# Altium integrated library ON Semi Signal Management CMOS Image Sensors.IntLib: 21 symbols (part 1 of 3)
Pins are listed as number, name and electrical type; pins without a type are passive.

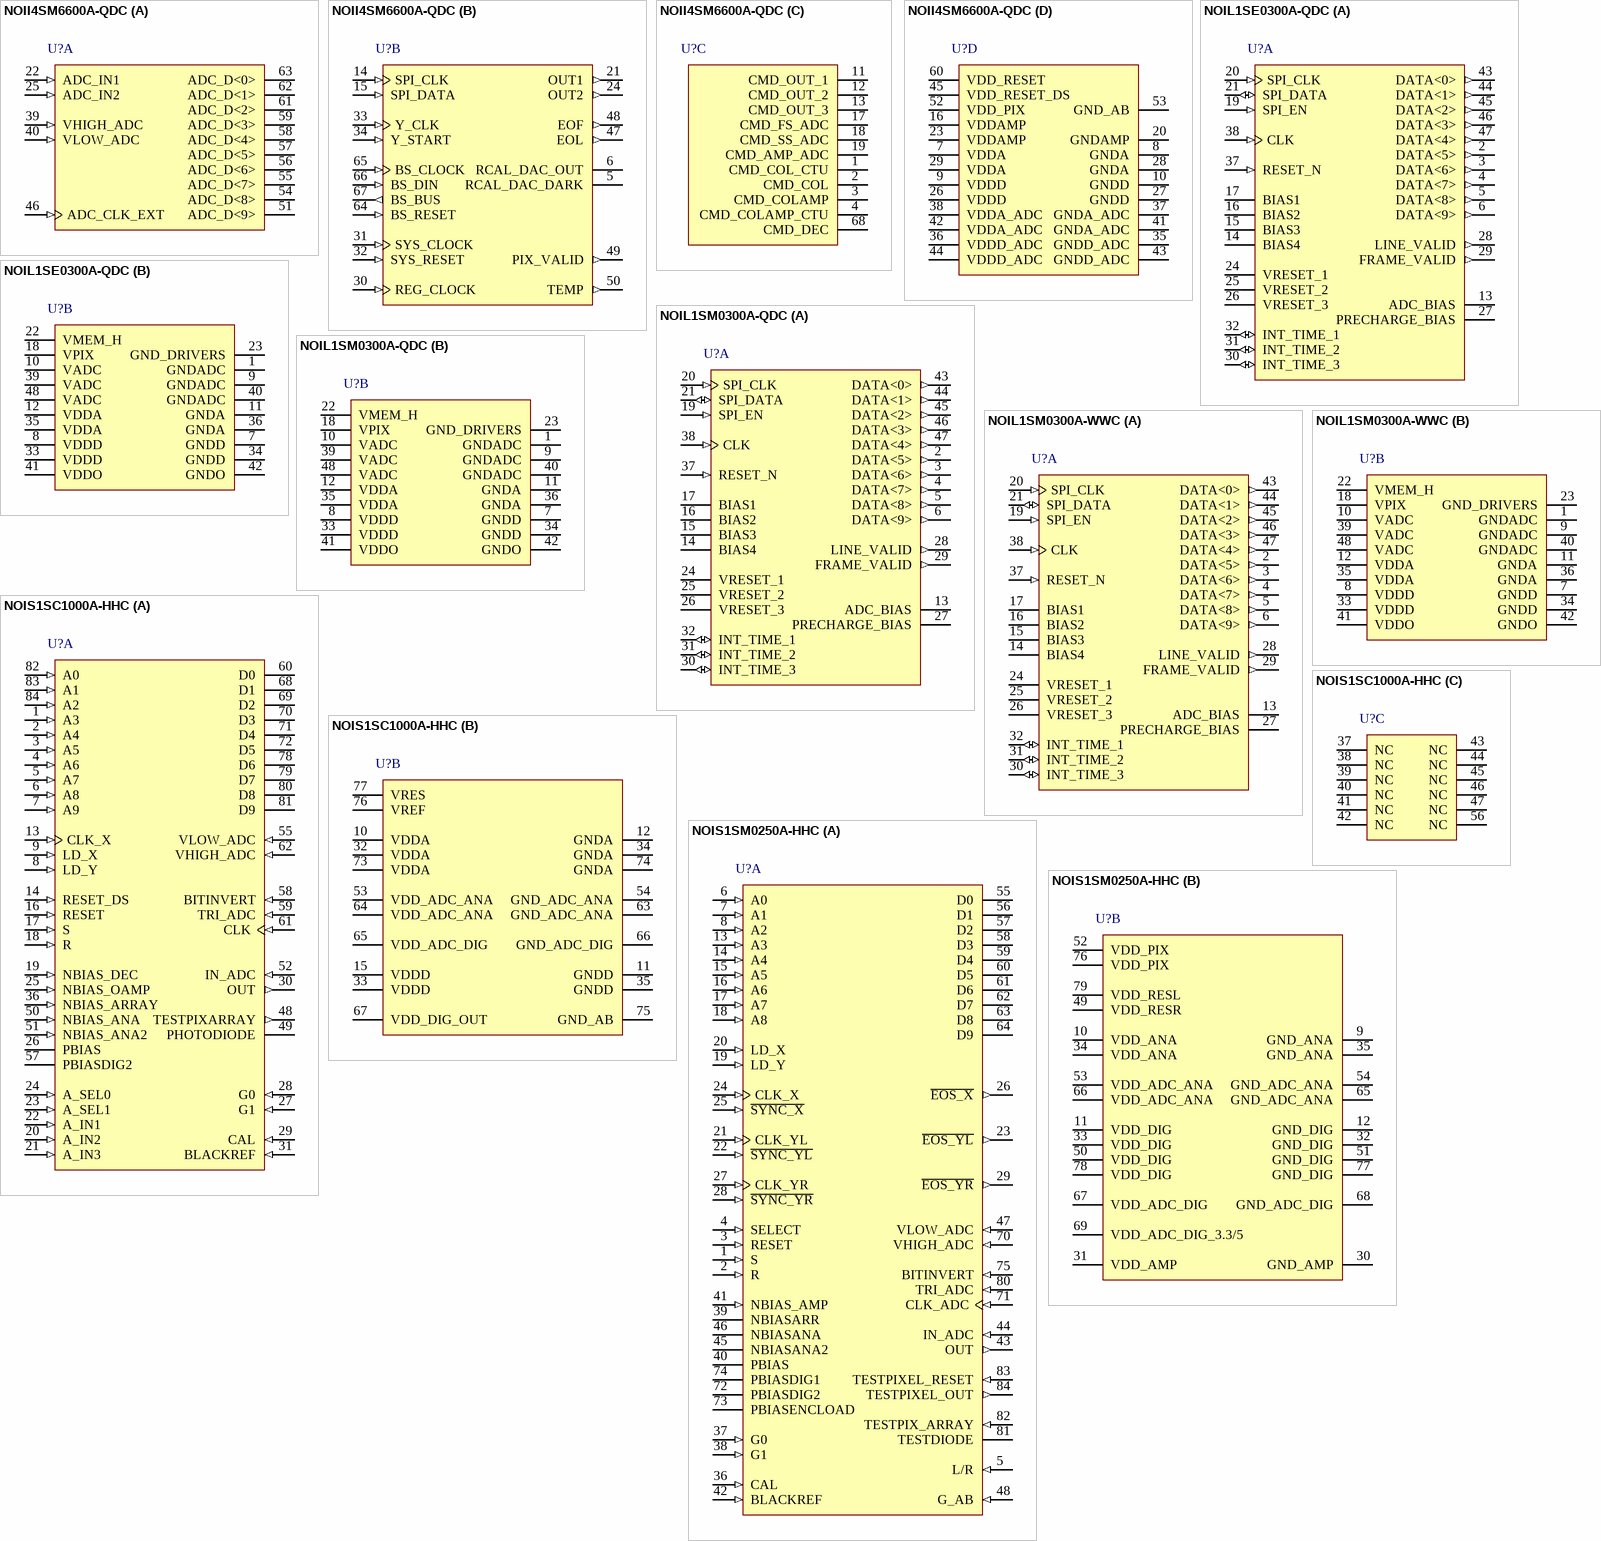
[diagram p0: symbols NOII4SM6600A-QDC to NOIS1SM0250A-HHC]

## NOII4SM6600A-QDC
designator U?
6.6 Megapixel CMOS Image Sensor, -30 to 65 degC, 68-Pin LCC, Pb-Free, Tray; Manufacturer: On Semiconductor; PartNumber: NOII4SM6600A-QDC; Megapixels: 6.6; Optical Format: 1 inch; Shutter Type: Rolling; DatasheetVersion: Rev. 14; PackageVersion: Rev. A, 12/2011; PackageReference: LCC-68-115AQ; PackageDescription: 68-Pin Leadless Chip Carrier, Body 24.195 x 24.195 mm, Pitch 1.27 mm; Supplier 1: Digi-Key; Supplier Part Number 1: NOII4SM6600A-QDC-ND; Supplier 2: Newark; Supplier Part Number 2: 65T1477; Supplier 3: Mouser; Supplier Part Number 3: 863-NOII4SM6600AQDC; Packing: Tray; RoHS: TRUE; Mounting Technology: Surface Mount; ComponentLink1Description: Manufacturer URL; ComponentLink1URL: http://www.onsemi.com/; ComponentLink2Description: Datasheet; ComponentLink2URL: http://www.onsemi.com/pub_link/Collateral/NOII4SM6600A-D.PDF; ComponentLink3Description: Package Specification; ComponentLink3URL: http://www.onsemi.com/pub_link/Collateral/115AQ.PDF
footprint ONSC-LCC-68-115AQ_V (LCC, 68-Leads, Body 24.195x24.195mm, Pitch 1.27mm)
part A pins: 22 ADC_IN1 (in) "Analog input ADC 1", 25 ADC_IN2 (in) "Analog input ADC 2", 39 VHIGH_ADC (in) "ADC high reference voltage (for example, connect to VDDA_ADC with R = 560 Ohm and decouple to GNDA_ADC with C = 100 nF)", 40 VLOW_ADC (in) "ADC low reference voltage (for example, connect to GNDA_ADC with R = 220 Ohm and decouple to GNDA_ADC with C = 100 nF)", 46 ADC_CLK_EXT (in) "External ADC clock", 51 ADC_D<9> (hiz) "ADC data output (MSB)", 54 ADC_D<8> (hiz) "ADC data output", 55 ADC_D<7> (hiz) "ADC data output", 56 ADC_D<6> (hiz) "ADC data output", 57 ADC_D<5> (hiz) "ADC data output", 58 ADC_D<4> (hiz) "ADC data output", 59 ADC_D<3> (hiz) "ADC data output", 61 ADC_D<2> (hiz) "ADC data output", 62 ADC_D<1> (hiz) "ADC data output", 63 ADC_D<0> (hiz) "ADC data output (LSB)"
part B pins: 5 RCAL_DAC_DARK "Biasing of DAC for dark reference. Can be used to set output range of DAC. Default: Decouple to GNDA with C = 100 nF", 6 RCAL_DAC_OUT "Biasing of DAC for output dark level. Can be used to set output range of DAC. Default: Connect to GNDA", 14 SPI_CLK (in) "Clock of digital parameter upload. Shifts on rising edge.", 15 SPI_DATA (in) "Serial address and data input. 16-bit word. Address first. MSB first.", 21 OUT1 (out) "Analog output 1", 24 OUT2 (out) "Analog output 2", 30 REG_CLOCK (in) "Register clock. Data on internal bus is copied to corresponding registers on rising edge.", 31 SYS_CLOCK (in) "System clock defining the pixel rate (nominal 40 MHz, 50% +/- 5% duty cycle)", 32 SYS_RESET (in) "Global system reset (active high)", 33 Y_CLK (in) "Line clock", 34 Y_START (in) "Start frame readout", 47 EOL (out) "Diagnostic end of line signal (produced by sequencer), can be used as Y_CLK", 48 EOF (out) "Diagnostic end of frame signal (produced by sequencer), can be used as Y_START", 49 PIX_VALID (out) "Diagnostic signal. High during pixel readout", 50 TEMP (out) "Temperature measurement. Output voltage varies linearly with temperature.", 64 BS_RESET (in) "Boundary scan (allows debugging of internal nodes): Reset. Tie to GND if not used.", 65 BS_CLOCK (in) "Boundary scan (allows debugging of internal nodes): Clock. Tie to GND if not used.", 66 BS_DIN (in) "Boundary scan (allows debugging of internal nodes): In. Tie to GND if not used.", 67 BS_BUS (out) "Boundary scan (allows debugging of internal nodes): Bus. Leave floating if not used."
part C pins: 1 CMD_COL_CTU "Biasing of columns (ctu). Decouple with 100 nF to GNDA.", 2 CMD_COL "Biasing of columns. Connect to VDDA with R = 10 kOhm and decouple to GNDA with C = 100 nF.", 3 CMD_COLAMP "Biasing of column amplifiers. Connect to VDDA with R = 100 kOhm and decouple to GNDA with C = 100 nF.", 4 CMD_COLAMP_CTU "Biasing of column amplifiers. Connect to VDDA with R = 10 MOhm and decouple to GNDA with C = 100 nF.", 11 CMD_OUT_1 "Biasing of first stage output amplifiers. Connect to VDDAMP with R = 50 kOhm and decouple to GNDAMP with C = 100 nF.", 12 CMD_OUT_2 "Biasing of second stage output amplifiers. Connect to VDDAMP with R = 25 kOhm and decouple to GNDAMP with C = 100 nF.", 13 CMD_OUT_3 "Biasing of third stage output amplifiers. Connect to VDDAMP with R = 100 kOhm and decouple to GNDAMP with C = 100 nF.", 17 CMD_FS_ADC "Biasing of first stage ADC. Connect to VDDA_ADC with R = 50 kOhm and decouple to GNDA_ADC with C = 100 nF.", 18 CMD_SS_ADC "Biasing of second stage ADC. Connect to VDDA_ADC with R = 50 kOhm and decouple to GNDA_ADC.", 19 CMD_AMP_ADC "Biasing of input stage ADC. Connect to VDDA_ADC with R = 180 kOhm and decouple to GNDA_ADC with C = 100 nF.", 68 CMD_DEC "Biasing of X and Y decoder. Connect to VDDD with R = 50 kOhm and decouple to GNDD with C = 100 nF."
part D pins: 7 VDDA (power) "VDD of analog part [2.5 V]", 8 GNDA (power) "GND (&substrate) of analog part", 9 VDDD (power) "VDD of digital part [2.5 V]", 10 GNDD (power) "GND (&substrate) of digital part", 16 VDDAMP (power) "VDD of analog output [2.5 V] (Can be connected to VDDA)", 20 GNDAMP (power) "GND (&substrate) of analog output", 23 VDDAMP (power) "VDD of analog output [2.5 V] (Can be connected to VDDA)", 26 VDDD (power) "VDD of digital part [2.5 V]", 27 GNDD (power) "GND (&substrate) of digital part", 28 GNDA (power) "GND (&substrate) of analog part", 29 VDDA (power) "VDD of analog part [2.5 V]", 35 GNDD_ADC (power) "GND (&substrate) of digital part ADC", 36 VDDD_ADC (power) "VDD of digital part [2.5 V] ADC", 37 GNDA_ADC (power) "GND (&substrate) of analog part", 38 VDDA_ADC (power) "VDD of analog part [2.5 V]", 41 GNDA_ADC (power) "GND (&substrate) of analog part", 42 VDDA_ADC (power) "VDD of analog part [2.5 V]", 43 GNDD_ADC (power) "GND (&substrate) of digital part ADC", 44 VDDD_ADC (power) "VDD of digital part [2.5 V] ADC", 45 VDD_RESET_DS (power) "Variable reset voltage (dual slope)", 52 VDD_PIX (power) "VDD of pixel core [2.5 V]", 53 GND_AB (power) "Anti-blooming ground. Set to 1 V for improved anti-blooming behavior", 60 VDD_RESET (power) "Reset voltage [2.5 V]. Highest voltage to the chip. 3.3 V for extended dynamic range or ‘hard reset’."

## NOIL1SE0300A-QDC
designator U?
CMOS Image Sensor, -40 to 70 degC, 48-Pin LCC, Pb-Free, Tray; Manufacturer: On Semiconductor; PartNumber: NOIL1SE0300A-QDC; Frame Rate (fps): 250; Megapixels: 0.3; Optical Format: 1/2 inch; Shutter Type: Pipelined and Triggered Global; DatasheetVersion: Rev. 10; PackageReference: LCC-48-45394; PackageDescription: 48-Pin Leadless Chip Carrier, Body 14.305 x 14.305 mm, Pitch 1.016 mm; Supplier 1: Digi-Key; Supplier Part Number 1: NOIL1SE0300A-QDC-ND; Supplier 2: Newark; Supplier Part Number 2: 65T1479; Supplier 3: Mouser; Supplier Part Number 3: N/A; Packing: Tray; RoHS: TRUE; Mounting Technology: Surface Mount; ComponentLink1Description: Manufacturer URL; ComponentLink1URL: http://www.onsemi.com/; ComponentLink2Description: Datasheet; ComponentLink2URL: http://www.onsemi.com/pub_link/Collateral/NOIL1SM0300A-D.PDF; ComponentLink3Description: Package Specification; ComponentLink3URL: http://www.onsemi.com/pub_link/Collateral/NOIL1SM0300A-D.PDF
footprint ONSC-LCC-48-45394_N (LCC, 48-Leads, Body 14.31x14.31mm, Pitch 1.016mm, IPC Medium Density)
footprint ONSC-LCC-48-45394_L (LCC, 48-Leads, Body 14.31x14.31mm, Pitch 1.016mm, IPC High Density)
footprint ONSC-LCC-48-45394_M (LCC, 48-Leads, Body 14.31x14.31mm, Pitch 1.016mm, IPC Low Density)
part A pins: 2 DATA<5> (out) "Databit<5>", 3 DATA<6> (out) "Databit<6>", 4 DATA<7> (out) "Databit<7>", 5 DATA<8> (out) "Databit<8>", 6 DATA<9> (out) "Databit<9> (MSB)", 13 ADC_BIAS "Biasing of ADCs. Connect with 10 kohm to VADC and decouple with 100n to GND_ADC", 14 BIAS4 "Biasing of amplifier stage. Connect with 110 kohm to VDDA and decouple with 100nF to GNDA", 15 BIAS3 "Biasing of columns. Connect with 42 kohm to VDDA and decouple with 100nF to GNDA", 16 BIAS2 "Biasing of columns. Connect with 1.5 Mohm to VDDA and decouple with 100nF to GNDA", 17 BIAS1 "Biasing of imager core. Connect with 500 kohm to VDDA and decouple with 100nF to GNDA", 19 SPI_EN (in) "Enable of the SPI", 20 SPI_CLK (in) "Clock of the SPI. (Max. 20MHz)", 21 SPI_DATA (io) "Data line of the SPI. Bidirectional pin", 24 VRESET_1 (power) "Reset supply voltage (typical 3.3V)", 25 VRESET_2 (power) "Dual slope reset supply voltage. Connect to other supply or ground when dual slope reset is not used", 26 VRESET_3 (power) "Triple slope reset supply voltage. Connect to other supply or ground when triple slope reset is not used", 27 PRECHARGE_BIAS "Connect with 68 kohm to VPIX and decouple with 100 nF to GND_DRIVERS", 28 LINE_VALID (out) "Indicates when valid data is at the outputs. Active high", 29 FRAME_VALID (out) "Indicates when valid frame is readout", 30 INT_TIME_3 (io) "In master mode: Output to indicate the triple slope integration time. In slave mode: Input to control the triple slope integration time", 31 INT_TIME_2 (io) "In master mode: Output to indicate the dual slope integration time. In slave mode: Input to control the dual slope integration time", 32 INT_TIME_1 (io) "In master mode: Output to indicate the integration time. In slave mode: Input to control integration time", 37 RESET_N (in) "Sequencer reset, active low", 38 CLK (in) "Readout clock (80 MHz), sine or square clock", 43 DATA<0> (out) "Databit<0> (MSB)", 44 DATA<1> (out) "Databit<1>", 45 DATA<2> (out) "Databit<2>", 46 DATA<3> (out) "Databit<3>", 47 DATA<4> (out) "Databit<4>"
part B pins: 1 GNDADC (power) "Ground supply of the ADCs", 7 GNDD (power) "Digital ground supply", 8 VDDD (power) "Digital power supply (2.5V)", 9 GNDADC (power) "Ground supply of the ADCs", 10 VADC (power) "Power supply of the ADCs (2.5V)", 11 GNDA (power) "Ground supply of analog readout circuitry", 12 VDDA (power) "Power supply of analog readout circuitry (2.5V)", 18 VPIX (power) "Power supply of pixel array (2.5V)", 22 VMEM_H (power) "Supply of vmem_high of pixelarray (3.3V)", 23 GND_DRIVERS (power) "Ground of pixel array drivers", 33 VDDD (power) "Digital power supply (2.5V)", 34 GNDD (power) "Digital ground supply", 35 VDDA (power) "Power supply of analog readout circuitry (2.5V)", 36 GNDA (power) "Ground supply of analog readout circuitry", 39 VADC (power) "Power supply of the ADCs (2.5V)", 40 GNDADC (power) "Ground supply of the ADCs", 41 VDDO (power) "Power supply of the output drivers (2.5V)", 42 GNDO (power) "Ground supply of the output drivers", 48 VADC (power) "Power supply of the ADCs (2.5V)"

## NOIL1SM0300A-QDC
designator U?
CMOS Image Sensor, -40 to 70 degC, 48-Pin LCC, Pb-Free, Tray; Manufacturer: On Semiconductor; PartNumber: NOIL1SM0300A-QDC; Frame Rate (fps): 250; Megapixels: 0.3; Optical Format: 1/2 inch; Shutter Type: Pipelined and Triggered Global; DatasheetVersion: Rev. 10; PackageReference: LCC-48-45394; PackageDescription: 48-Pin Leadless Chip Carrier, Body 14.305 x 14.305 mm, Pitch 1.016 mm; Supplier 1: Digi-Key; Supplier Part Number 1: NOIL1SM0300A-QDCOS-ND; Supplier 2: Newark; Supplier Part Number 2: 65T1481; Supplier 3: Mouser; Supplier Part Number 3: 863-NOIL1SM0300AQDC; Packing: Tray; RoHS: TRUE; Mounting Technology: Surface Mount; ComponentLink1Description: Manufacturer URL; ComponentLink1URL: http://www.onsemi.com/; ComponentLink2Description: Datasheet; ComponentLink2URL: http://www.onsemi.com/pub_link/Collateral/NOIL1SM0300A-D.PDF; ComponentLink3Description: Package Specification; ComponentLink3URL: http://www.onsemi.com/pub_link/Collateral/NOIL1SM0300A-D.PDF
footprint ONSC-LCC-48-45394_N (LCC, 48-Leads, Body 14.31x14.31mm, Pitch 1.016mm, IPC Medium Density)
footprint ONSC-LCC-48-45394_L (LCC, 48-Leads, Body 14.31x14.31mm, Pitch 1.016mm, IPC High Density)
footprint ONSC-LCC-48-45394_M (LCC, 48-Leads, Body 14.31x14.31mm, Pitch 1.016mm, IPC Low Density)
part A pins: 2 DATA<5> (out) "Databit<5>", 3 DATA<6> (out) "Databit<6>", 4 DATA<7> (out) "Databit<7>", 5 DATA<8> (out) "Databit<8>", 6 DATA<9> (out) "Databit<9> (MSB)", 13 ADC_BIAS "Biasing of ADCs. Connect with 10 kohm to VADC and decouple with 100n to GND_ADC", 14 BIAS4 "Biasing of amplifier stage. Connect with 110 kohm to VDDA and decouple with 100nF to GNDA", 15 BIAS3 "Biasing of columns. Connect with 42 kohm to VDDA and decouple with 100nF to GNDA", 16 BIAS2 "Biasing of columns. Connect with 1.5 Mohm to VDDA and decouple with 100nF to GNDA", 17 BIAS1 "Biasing of imager core. Connect with 500 kohm to VDDA and decouple with 100nF to GNDA", 19 SPI_EN (in) "Enable of the SPI", 20 SPI_CLK (in) "Clock of the SPI. (Max. 20MHz)", 21 SPI_DATA (io) "Data line of the SPI. Bidirectional pin", 24 VRESET_1 (power) "Reset supply voltage (typical 3.3V)", 25 VRESET_2 (power) "Dual slope reset supply voltage. Connect to other supply or ground when dual slope reset is not used", 26 VRESET_3 (power) "Triple slope reset supply voltage. Connect to other supply or ground when triple slope reset is not used", 27 PRECHARGE_BIAS "Connect with 68 kohm to VPIX and decouple with 100 nF to GND_DRIVERS", 28 LINE_VALID (out) "Indicates when valid data is at the outputs. Active high", 29 FRAME_VALID (out) "Indicates when valid frame is readout", 30 INT_TIME_3 (io) "In master mode: Output to indicate the triple slope integration time. In slave mode: Input to control the triple slope integration time", 31 INT_TIME_2 (io) "In master mode: Output to indicate the dual slope integration time. In slave mode: Input to control the dual slope integration time", 32 INT_TIME_1 (io) "In master mode: Output to indicate the integration time. In slave mode: Input to control integration time", 37 RESET_N (in) "Sequencer reset, active low", 38 CLK (in) "Readout clock (80 MHz), sine or square clock", 43 DATA<0> (out) "Databit<0> (MSB)", 44 DATA<1> (out) "Databit<1>", 45 DATA<2> (out) "Databit<2>", 46 DATA<3> (out) "Databit<3>", 47 DATA<4> (out) "Databit<4>"
part B pins: 1 GNDADC (power) "Ground supply of the ADCs", 7 GNDD (power) "Digital ground supply", 8 VDDD (power) "Digital power supply (2.5V)", 9 GNDADC (power) "Ground supply of the ADCs", 10 VADC (power) "Power supply of the ADCs (2.5V)", 11 GNDA (power) "Ground supply of analog readout circuitry", 12 VDDA (power) "Power supply of analog readout circuitry (2.5V)", 18 VPIX (power) "Power supply of pixel array (2.5V)", 22 VMEM_H (power) "Supply of vmem_high of pixelarray (3.3V)", 23 GND_DRIVERS (power) "Ground of pixel array drivers", 33 VDDD (power) "Digital power supply (2.5V)", 34 GNDD (power) "Digital ground supply", 35 VDDA (power) "Power supply of analog readout circuitry (2.5V)", 36 GNDA (power) "Ground supply of analog readout circuitry", 39 VADC (power) "Power supply of the ADCs (2.5V)", 40 GNDADC (power) "Ground supply of the ADCs", 41 VDDO (power) "Power supply of the output drivers (2.5V)", 42 GNDO (power) "Ground supply of the output drivers", 48 VADC (power) "Power supply of the ADCs (2.5V)"

## NOIL1SM0300A-WWC
designator U?
CMOS Image Sensor, -40 to 70 degC, 48-Pin LCC, Pb-Free; Manufacturer: On Semiconductor; PartNumber: NOIL1SM0300A-WWC; Frame Rate (fps): 250; Megapixels: 0.3; Optical Format: 1/2 inch; Shutter Type: Pipelined and Triggered Global; DatasheetVersion: Rev. 10; PackageReference: LCC-48-45394; PackageDescription: 48-Pin Leadless Chip Carrier, Body 14.305 x 14.305 mm, Pitch 1.016 mm; Supplier 1: Digi-Key; Supplier Part Number 1: NOIL1SM0300A-WWC-ND; Supplier 2: Newark; Supplier Part Number 2: 65T1482; Supplier 3: Mouser; Supplier Part Number 3: N/A; RoHS: TRUE; Mounting Technology: Surface Mount; ComponentLink1Description: Manufacturer URL; ComponentLink1URL: http://www.onsemi.com/; ComponentLink2Description: Datasheet; ComponentLink2URL: http://www.onsemi.com/pub_link/Collateral/NOIL1SM0300A-D.PDF; ComponentLink3Description: Package Specification; ComponentLink3URL: http://www.onsemi.com/pub_link/Collateral/NOIL1SM0300A-D.PDF
footprint ONSC-LCC-48-45394_N (LCC, 48-Leads, Body 14.31x14.31mm, Pitch 1.016mm, IPC Medium Density)
footprint ONSC-LCC-48-45394_L (LCC, 48-Leads, Body 14.31x14.31mm, Pitch 1.016mm, IPC High Density)
footprint ONSC-LCC-48-45394_M (LCC, 48-Leads, Body 14.31x14.31mm, Pitch 1.016mm, IPC Low Density)
part A pins: 2 DATA<5> (out) "Databit<5>", 3 DATA<6> (out) "Databit<6>", 4 DATA<7> (out) "Databit<7>", 5 DATA<8> (out) "Databit<8>", 6 DATA<9> (out) "Databit<9> (MSB)", 13 ADC_BIAS "Biasing of ADCs. Connect with 10 kohm to VADC and decouple with 100n to GND_ADC", 14 BIAS4 "Biasing of amplifier stage. Connect with 110 kohm to VDDA and decouple with 100nF to GNDA", 15 BIAS3 "Biasing of columns. Connect with 42 kohm to VDDA and decouple with 100nF to GNDA", 16 BIAS2 "Biasing of columns. Connect with 1.5 Mohm to VDDA and decouple with 100nF to GNDA", 17 BIAS1 "Biasing of imager core. Connect with 500 kohm to VDDA and decouple with 100nF to GNDA", 19 SPI_EN (in) "Enable of the SPI", 20 SPI_CLK (in) "Clock of the SPI. (Max. 20MHz)", 21 SPI_DATA (io) "Data line of the SPI. Bidirectional pin", 24 VRESET_1 (power) "Reset supply voltage (typical 3.3V)", 25 VRESET_2 (power) "Dual slope reset supply voltage. Connect to other supply or ground when dual slope reset is not used", 26 VRESET_3 (power) "Triple slope reset supply voltage. Connect to other supply or ground when triple slope reset is not used", 27 PRECHARGE_BIAS "Connect with 68 kohm to VPIX and decouple with 100 nF to GND_DRIVERS", 28 LINE_VALID (out) "Indicates when valid data is at the outputs. Active high", 29 FRAME_VALID (out) "Indicates when valid frame is readout", 30 INT_TIME_3 (io) "In master mode: Output to indicate the triple slope integration time. In slave mode: Input to control the triple slope integration time", 31 INT_TIME_2 (io) "In master mode: Output to indicate the dual slope integration time. In slave mode: Input to control the dual slope integration time", 32 INT_TIME_1 (io) "In master mode: Output to indicate the integration time. In slave mode: Input to control integration time", 37 RESET_N (in) "Sequencer reset, active low", 38 CLK (in) "Readout clock (80 MHz), sine or square clock", 43 DATA<0> (out) "Databit<0> (MSB)", 44 DATA<1> (out) "Databit<1>", 45 DATA<2> (out) "Databit<2>", 46 DATA<3> (out) "Databit<3>", 47 DATA<4> (out) "Databit<4>"
part B pins: 1 GNDADC (power) "Ground supply of the ADCs", 7 GNDD (power) "Digital ground supply", 8 VDDD (power) "Digital power supply (2.5V)", 9 GNDADC (power) "Ground supply of the ADCs", 10 VADC (power) "Power supply of the ADCs (2.5V)", 11 GNDA (power) "Ground supply of analog readout circuitry", 12 VDDA (power) "Power supply of analog readout circuitry (2.5V)", 18 VPIX (power) "Power supply of pixel array (2.5V)", 22 VMEM_H (power) "Supply of vmem_high of pixelarray (3.3V)", 23 GND_DRIVERS (power) "Ground of pixel array drivers", 33 VDDD (power) "Digital power supply (2.5V)", 34 GNDD (power) "Digital ground supply", 35 VDDA (power) "Power supply of analog readout circuitry (2.5V)", 36 GNDA (power) "Ground supply of analog readout circuitry", 39 VADC (power) "Power supply of the ADCs (2.5V)", 40 GNDADC (power) "Ground supply of the ADCs", 41 VDDO (power) "Power supply of the output drivers (2.5V)", 42 GNDO (power) "Ground supply of the output drivers", 48 VADC (power) "Power supply of the ADCs (2.5V)"

## NOIS1SC1000A-HHC
designator U?
1 Megapixel Radiation Hard CMOS Image Sensor, -40 to 85 degC, 84-Pin JLDCC, Pb-Free; Manufacturer: On Semiconductor; PartNumber: NOIS1SC1000A-HHC; Frame Rate (fps): 11; Megapixels: 1; Optical Format: 1 inch; Shutter Type: Rolling; DatasheetVersion: Rev. 13; PackageVersion: Rev. O, 07/2011; PackageReference: JLDCC-84-114AK-01; PackageDescription: 84-Pin J-Leaded Chip Carrier, Body 29.21 x 29.21 mm, Pitch 1.27 mm; Supplier 1: Digi-Key; Supplier Part Number 1: NOIS1SC1000A-HHC-ND; Supplier 2: Mouser; Supplier Part Number 2: N/A; RoHS: TRUE; Mounting Technology: Surface Mount; ComponentLink1Description: Manufacturer URL; ComponentLink1URL: http://www.onsemi.com/; ComponentLink2Description: Datasheet; ComponentLink2URL: http://www.onsemi.com/pub_link/Collateral/NOIS1SM1000A-D.PDF; ComponentLink3Description: Package Specification; ComponentLink3URL: http://www.onsemi.com/pub_link/Collateral/114AK.PDF
footprint ONSC-JLDCC-84-114AK-01_V (PLCC, 84-Leads, Body 29.21x29.21mm, Pitch 1.27mm)
part A pins: 1 A3 (in), 2 A4 (in), 3 A5 (in), 4 A6 (in), 5 A7 (in), 6 A8 (in), 7 A9 (in), 8 LD_Y (in) "Digital Input. Latch address (A0…A9) to Y-register (0 = track, 1 = hold).", 9 LD_X (in) "Digital input. Latch address (A0…A9) to X-register (0 = track, 1 = hold).", 13 CLK_X (in) "Digital input. Clock X-register (output valid & stable when CLK_X is high).", 14 RESET_DS (in) "Digital input (active high). Resets row indicated by Y-address (see sensor timing diagram). RESET_DS is used for dual-slope integration (see FAQ). GND is used for normal operation.", 16 RESET (in) "Digital input (active high). Resets row indicated by Y-address (see sensor timing diagram).", 17 S (in) "Digital input (active high). Control signal for column amplifier (see sensor timing diagram).", 18 R (in) "Digital input (active high). Control signal for column amplifier (see sensor timing diagram).", 19 NBIAS_DEC (in) "Analog input. Biasing of address decoder. Connect with 100 kohm to VDDA and decouple with 100 nF to GND.", 20 A_IN2 (in) "Additional analog inputs. For proper conversion with on-chip ADC, the input signal must lie within the output signal range of the image sensor (approxim-ately +2 V to +4 V).", 21 A_IN3 (in) "Additional analog inputs. For proper conversion with on-chip ADC, the input signal must lie within the output signal range of the image sensor (approxim-ately +2 V to +4 V).", 22 A_IN1 (in) "Additional analog inputs. For proper conversion with on-chip ADC, the input signal must lie within the output signal range of the image sensor (approxim-ately +2 V to +4 V).", 23 A_SEL1 (in) "Selection of analog channel: ?0?selects image sensor (?1?selects A_IN1, ?0?A_IN2, and ?1?A_IN3).", 24 A_SEL0 (in) "Selection of analog channel: ?0?selects image sensor (?1?selects A_IN1, ?0?A_IN2, and ?1?A_IN3).", 25 NBIAS_OAMP (in) "Analog input. Bias of output amplifier (speed/power control). Connect with 100 kohm to VDDA and decouple with 100 nF to GND for 12.5 MHz output rate (lower resistor values yield higher maximal pixel rates at the cost of (See Datasheet)", 26 PBIAS "Analog input. Biasing of the multiplexer circuitry. Connect with 20 kohm to GND and decouple with 100 nF to VDD.", 27 G1 (in) "Digital input. Select output amplifier gain value: G0 = LSB, G1 = MSB (?0?= unity gain, ?1?= x2, ?0?= x4, ?1?= x8).", 28 G0 (in) "Digital input. Select output amplifier gain value: G0 = LSB, G1 = MSB (?0?= unity gain, ?1?= x2, ?0?= x4, ?1?= x8).", 29 CAL (in) "Digital input (active high). Initialization of output amplifier. Output amplifier outputs BLACKREF in unity gain mode when CAL is high (1). Apply pulse pattern (see sensor timing diagram).", 30 OUT (out) "Analog Output Video Signal. Connected to the analog input of the internal (pin 52) 10-bit ADC or an external ADC.", 31 BLACKREF (in) "Analog input. Control voltage for output signal offset level. Buffered on-chip, the reference level can be generated by a 100 kohm resistive divider. Connect to 2 V DC for use with on-chip ADC.", 36 NBIAS_ARRAY (in) "Analog input. Biasing of the pixel array. Connect with 1Mohm to VDDA and decouple with 100 nF capacitor to GND.", 48 TESTPIXARRAY (out) "Analog output of an array of 20 x 35 test pixels where all photodiodes are connected in parallel. Is used for electro-optical evaluation.", 49 PHOTODIODE "Plain Photo Diode (without circuitry). Area of the photodiode = 20 x 35 pixels. Is used for electro-optical evaluation.", 50 NBIAS_ANA (in) "Analog input. Analog biasing of the ADC circuitry. Connect with 100 kohm to VDDA and decouple with 100 nF to GND.", 51 NBIAS_ANA2 (in) "Analog input. Analog biasing of the ADC circuitry. Connect with 100 kohm to VDDA and decouple with 100 nF to GND.", 52 IN_ADC (in) "Analog input of the internal ADC. Connect to analog output of image sensor (pin 30). Input range (typically 2 V and 4 V) of the internal ADC is set between by VLOW_ADC (pin 55) and VHIGH_ADC (pin 62).", 55 VLOW_ADC (in) "Low reference voltage of internal ADC. Nominal input range of the ADC is between 2 V and 4 V. The resistance between VLOW_ADC and VHIGH_ADC is approximately 1.5 kohm. Connect with 1.5 kohm to GND and decouple with 100 nF to (See Datasheet)", 57 PBIASDIG2 "Connect with 20 kohm to GND and decouple with 100 nF to VDDA.", 58 BITINVERT (in) "Digital input. Inversion of the ADC output bits. 0 = invert output bits (0 => black, 1023; white, 0), 1 = no inversion of output bits (black, 0; white, 1023).", 59 TRI_ADC (in) "Digital input. Tri-state control of digital ADC outputs (1 = tri-state, 0 = normal mode).", 60 D0 (hiz) "ADC output bits.#D0 = LSB, D9=MSB.", 61 CLK (in) "Digital input. ADC clock. ADC converts on falling edge.", 62 VHIGH_ADC (in) "High reference voltage of internal ADC. Nominal input range of the ADC is between 2 V and 4 V. The resistance between VLOW_ADC and VHIGH_ADC is about 1.5 kohm. Connect with 1.1 kohm to VDDA and decouple with 100 nF to GND.", 68 D1 (hiz) "ADC output bits. #D0 = LSB, D9 = MSB.", 69 D2 (hiz) "ADC output bits. #D0 = LSB, D9 = MSB.", 70 D3 (hiz) "ADC output bits. #D0 = LSB, D9 = MSB.", 71 D4 (hiz) "ADC output bits. #D0 = LSB, D9 = MSB.", 72 D5 (hiz) "ADC output bits. #D0 = LSB, D9 = MSB.", 78 D6 (hiz) "ADC output bits. #D0 = LSB, D9 = MSB.", 79 D7 (hiz) "ADC output bits. #D0 = LSB, D9 = MSB.", 80 D8 (hiz) "ADC output bits. #D0 = LSB, D9 = MSB.", 81 D9 (hiz) "ADC output bits. #D0 = LSB, D9 = MSB.", 82 A0 (in) "Digital input. Address inputs for row and column addressing. A9 = LSB, A0 = MSB.", 83 A1 (in) "Digital input. Address inputs for row and column addressing. A9 = LSB, A0 = MSB.", 84 A2 (in) "Digital input. Address inputs for row and column addressing. A9 = LSB, A0 = MSB."
part B pins: 10 VDDA (power) "Analog power supply of the imager (typical 5 V).", 11 GNDD (power) "Digital ground of the imager.", 12 GNDA (power) "Analog ground of the imager.", 15 VDDD (power) "Digital supply of the image sensor.", 32 VDDA (power) "Analog power supply of image core (typical 5 V).", 33 VDDD (power) "Digital power supply of image core (typical 5 V).", 34 GNDA (power) "Analog ground of image core.", 35 GNDD (power) "Digital ground of image core.", 53 VDD_ADC_ANA (power) "Analog power supply of the ADC (typical 5 V).", 54 GND_ADC_ANA (power) "Analog ground of the ADC.", 63 GND_ADC_ANA (power) "Analog ground of the ADC circuitry.", 64 VDD_ADC_ANA (power) "Analog supply of the ADC circuitry (typical 5 V).", 65 VDD_ADC_DIG (power) "Digital supply of the ADC circuitry (typical 5 V).", 66 GND_ADC_DIG (power) "Digital ground of the ADC circuitry.", 67 VDD_DIG_OUT (power) "Power supply of ADC digital output. Connect to 5 V for normal operation. Can be brought to lower voltage when image sensor must be interfaced to low voltage periphery.", 73 VDDA (power) "Analog supply of the image core (typical 5 V).", 74 GNDA (power) "Analog ground of the image core (typical 5 V).", 75 GND_AB (power) "Anti-blooming drain control voltage. Default: connect to ground where the anti-blooming is operational but not maximal. Apply 1 V DC for improved anti-blooming.", 76 VREF (power) "Analog supply. Reset level for RESET_DS. Is used for extended optical dynamic range. See FAQ for more details.", 77 VRES (power) "Analog supply. Reset level for RESET (typical 5 V)."
part C pins: 37 NC, 38 NC, 39 NC, 40 NC, 41 NC, 42 NC, 43 NC, 44 NC, 45 NC, 46 NC, 47 NC, 56 NC

## NOIS1SM0250A-HHC
designator U?
250 K Pixel Radiation Tolerant CMOS Image Sensor, -40 to 85 degC, 84-Pin JLDCC, Pb-Free, Tray; Manufacturer: On Semiconductor; PartNumber: NOIS1SM0250A-HHC; Frame Rate (fps): 29; Megapixels: 0.25; Optical Format: 1 inch; Shutter Type: Electronic; DatasheetVersion: Rev. 10; PackageVersion: Rev. O, 07/2011; PackageReference: JLDCC-84-114AK-01; PackageDescription: 84-Pin J-Leaded Chip Carrier, Body 29.21 x 29.21 mm, Pitch 1.27 mm; Supplier 1: Digi-Key; Supplier Part Number 1: NOIS1SM0250A-HHC-ND; Supplier 2: Mouser; Supplier Part Number 2: N/A; Packing: Tray; RoHS: TRUE; Mounting Technology: Surface Mount; ComponentLink1Description: Manufacturer URL; ComponentLink1URL: http://www.onsemi.com/; ComponentLink2Description: Datasheet; ComponentLink2URL: http://www.onsemi.com/pub_link/Collateral/NOIS1SM0250A-D.PDF; ComponentLink3Description: Package Specification; ComponentLink3URL: http://www.onsemi.com/pub_link/Collateral/114AK.PDF
footprint ONSC-JLDCC-84-114AK-01_V (PLCC, 84-Leads, Body 29.21x29.21mm, Pitch 1.27mm)
part A pins: 1 S (in) "Control signal for column amplifier", 2 R (in) "Control signal for column amplifier", 3 RESET (in) "Resets row indicated by left/right shift register. high active (1= reset row)", 4 SELECT (in) "Selects row indicated by left/right shift register. high active (1=select row)", 5 L/R (in) "Use left or right shift register for SELECT and RESET. 1 = left / 0 = right; see Figure 11.", 6 A0 (in) "Start address for X and Y pointers (LSB)", 7 A1 (in) "Start address for X and Y pointers", 8 A2 (in) "Start address for X and Y pointers", 13 A3 (in) "Start address for X and Y pointers", 14 A4 (in) "Start address for X and Y pointers", 15 A5 (in) "Start address for X and Y pointers", 16 A6 (in) "Start address for X and Y pointers", 17 A7 (in) "Start address for X and Y pointers", 18 A8 (in) "Start address for X and Y pointers (MSB)", 19 LD_Y (in) "Latch address (A0…A8) to Y start register (0 = track, 1 = hold)", 20 LD_X (in) "Latch address (A0…A8) to X start register (0 = track, 1 = hold)", 21 CLK_YL (in) "Clock YL shift register (shifts on falling edge)", 22 ~{SYNC_YL} (in) "Sets YL shift register to location preloaded in Y start register. Low active (0=sync). Apply SYNC_YL when CLK_YL is high.", 23 ~{EOS_YL} (out) "End-of-scan of YL shift register. Low first clock period after last row (low active).", 24 CLK_X (in) "Clock X shift register (output valid and s when CLK_X is low)", 25 ~{SYNC_X} (in) "Sets X shift register to location preloaded in X start register. Low active (0=sync). Apply SYNC_X when CLK_X is high. After SYNC_X, apply falling edge on CLK_X, and rising edge on CLK_X.", 26 ~{EOS_X} (out) "End-of-scan of X shift register. Low first clock period after last active column (low active).", 27 CLK_YR (in) "Clock YR shift register (shifts on falling edge)", 28 ~{SYNC_YR} (in) "Sets YR shift register to location preloaded in Y start register. Low active (0=sync). Apply SYNC_YR when CLK_YR is high.", 29 ~{EOS_YR} (out) "End-of-scan of YR shift register. Low first clock period after last row (low active).", 36 CAL (in) "Initialize output amplifier. Output amplifier will output BLACKREF in unity gain mode when CAL is high (1).", 37 G0 (in) "Select output amplifier gain value: G0 = LSB; G1 = MSB. 00 = unity gain; 01 = x2; 10 = x4; 11 = x8.", 38 G1 (in) "idem", 39 NBIASARR "Connect with 470 k to VDD and decouple to ground with a 100 nF capacitor.", 40 PBIAS "Connect with 39 k to ground and decouple to VDD with a 100 nF capacitor for 8 MHz pixel rate. (Lower resistor values yield higher maximal pixel rates at the cost of extra power dissipation).", 41 NBIAS_AMP (in) "Output amplifier speed/power control. Connect with 51 k  to VDD and decouple with 100 nF to GND for 8 MHz output rate (Lower resistor values yield higher maximal pixel rates at the cost of extra power dissipation).", 42 BLACKREF (in) "Control voltage for output signal offset level. Buffered on-chip, the reference level can be generated by a 100 kohm resistive divider. Connect to +/- 2 V DC for use with on-chip ADC.", 43 OUT (out) "Analog output signal are connected to the analog input of the ADC.", 44 IN_ADC (in) "Input, connect to sensor output. Input range is between 2 and 4 V (VLOW_ADC and VHIGH_ADC).", 45 NBIASANA2 "Connect with 100 k to VDD and decouple to GND.", 46 NBIASANA "Connect with 100 k to VDD and decouple to GND.", 47 VLOW_ADC (in) "Low reference and high reference voltages of ADC should be about 2 V and 4 V. The required voltage settings on VLOW_ADC and VHIGH_ADC can be approximated by tying VLOW_ADC with 1.2 kohm to GND and VHIGH_ADC with 560ohm to (See Datasheet)", 48 G_AB (in) "Antiblooming drain control voltage: Default: connect to ground. The antiblooming is operational but not maximal. Apply 1 V DC for improved antiblooming.", 55 D0 (hiz) "ADC output bit (LSB)", 56 D1 (hiz) "ADC output bit", 57 D2 (hiz) "ADC output bit", 58 D3 (hiz) "ADC output bit", 59 D4 (hiz) "ADC output bit", 60 D5 (hiz) "ADC output bit", 61 D6 (hiz) "ADC output bit", 62 D7 (hiz) "ADC output bit", 63 D8 (hiz) "ADC output bit", 64 D9 (hiz) "ADC output bit (MSB)", 70 VHIGH_ADC (in) "Low reference and high reference voltages of ADC should be about 2 V and 4 V. The required voltage settings on VLOW_ADC and VHIGH_ADC can be approximated by tying VLOW_ADC with 1.2 kohm to GND and VHIGH_ADC with 560ohm to (See Datasheet)", 71 CLK_ADC (in) "ADC clock. ADC converts on falling edge.", 72 PBIASDIG2 "Connect with 100 K to GND and decouple to VDD.", 73 PBIASENCLOAD "Connect with 100 K to GND and decouple to VDD.", 74 PBIASDIG1 "Connect with 47 K to GND and decouple to VDD.", 75 BITINVERT (in) "1 = invert output bits. 0 = no inversion of output bits.", 80 TRI_ADC (in) "Tristate control of digital ADC outputs. 1 = tristate; 0 = output.", 81 TESTDIODE "Plain photo diode, size: 14 x 25 pixels. Must be left open for normal operation.", 82 TESTPIX_ARRAY (in) "Array of test pixels, connected in parallel (14 x 25 pixels). Must be left open for normal operation.", 83 TESTPIXEL_RESET (in) "Reset input of single test pixel. Must be tied to GND for normal operation.", 84 TESTPIXEL_OUT (out) "Output of single test pixel. Must be left open for normal operation."
part B pins: 9 GND_ANA (power) "Analog ground", 10 VDD_ANA (power) "Analog power supply 5 V", 11 VDD_DIG (power) "Digital power supply 5 V", 12 GND_DIG (power) "Digital ground", 30 GND_AMP (power) "Ground of output amplifier", 31 VDD_AMP (power) "Power supply of output amplifier 5 V", 32 GND_DIG (power) "Digital ground", 33 VDD_DIG (power) "Digital power supply 5 V", 34 VDD_ANA (power) "Analog power supply 5 V", 35 GND_ANA (power) "Analog ground", 49 VDD_RESR (power) "Reset power supply 5 V", 50 VDD_DIG (power) "Digital power supply 5 V", 51 GND_DIG (power) "Digital ground", 52 VDD_PIX (power) "Pixel array power supply [default: 5 V, the device is then in ‘soft reset’. To avoid the image lag associated with soft reset, reduce this voltage to 3 3.5 V ‘hard reset’]", 53 VDD_ADC_ANA (power) "ADC analog power supply 5 V", 54 GND_ADC_ANA (power) "ADC analog ground", 65 GND_ADC_ANA (power) "ADC analog ground", 66 VDD_ADC_ANA (power) "ADC analog power supply 5 V", 67 VDD_ADC_DIG (power) "ADC digital power supply 5 V", 68 GND_ADC_DIG (power) "ADC digital ground", 69 VDD_ADC_DIG_3.3/5 (power) "ADC 3.3 V power supply for digital output of ADC. For interface with 5 V external system: connect to VDD_ADC_DIG. For interface with 3.3 V external system: connect to 3.3 V power supply", 76 VDD_PIX (power) "Pixel array power supply [default: 5 V, the device is then in ‘soft reset’. To avoid the image lag associated with soft reset, reduce this voltage to 3 3.5 V ‘hard reset’]", 77 GND_DIG (power) "Digital ground", 78 VDD_DIG (power) "Digital power supply 5 V", 79 VDD_RESL (power) "Reset power supply 5 V"

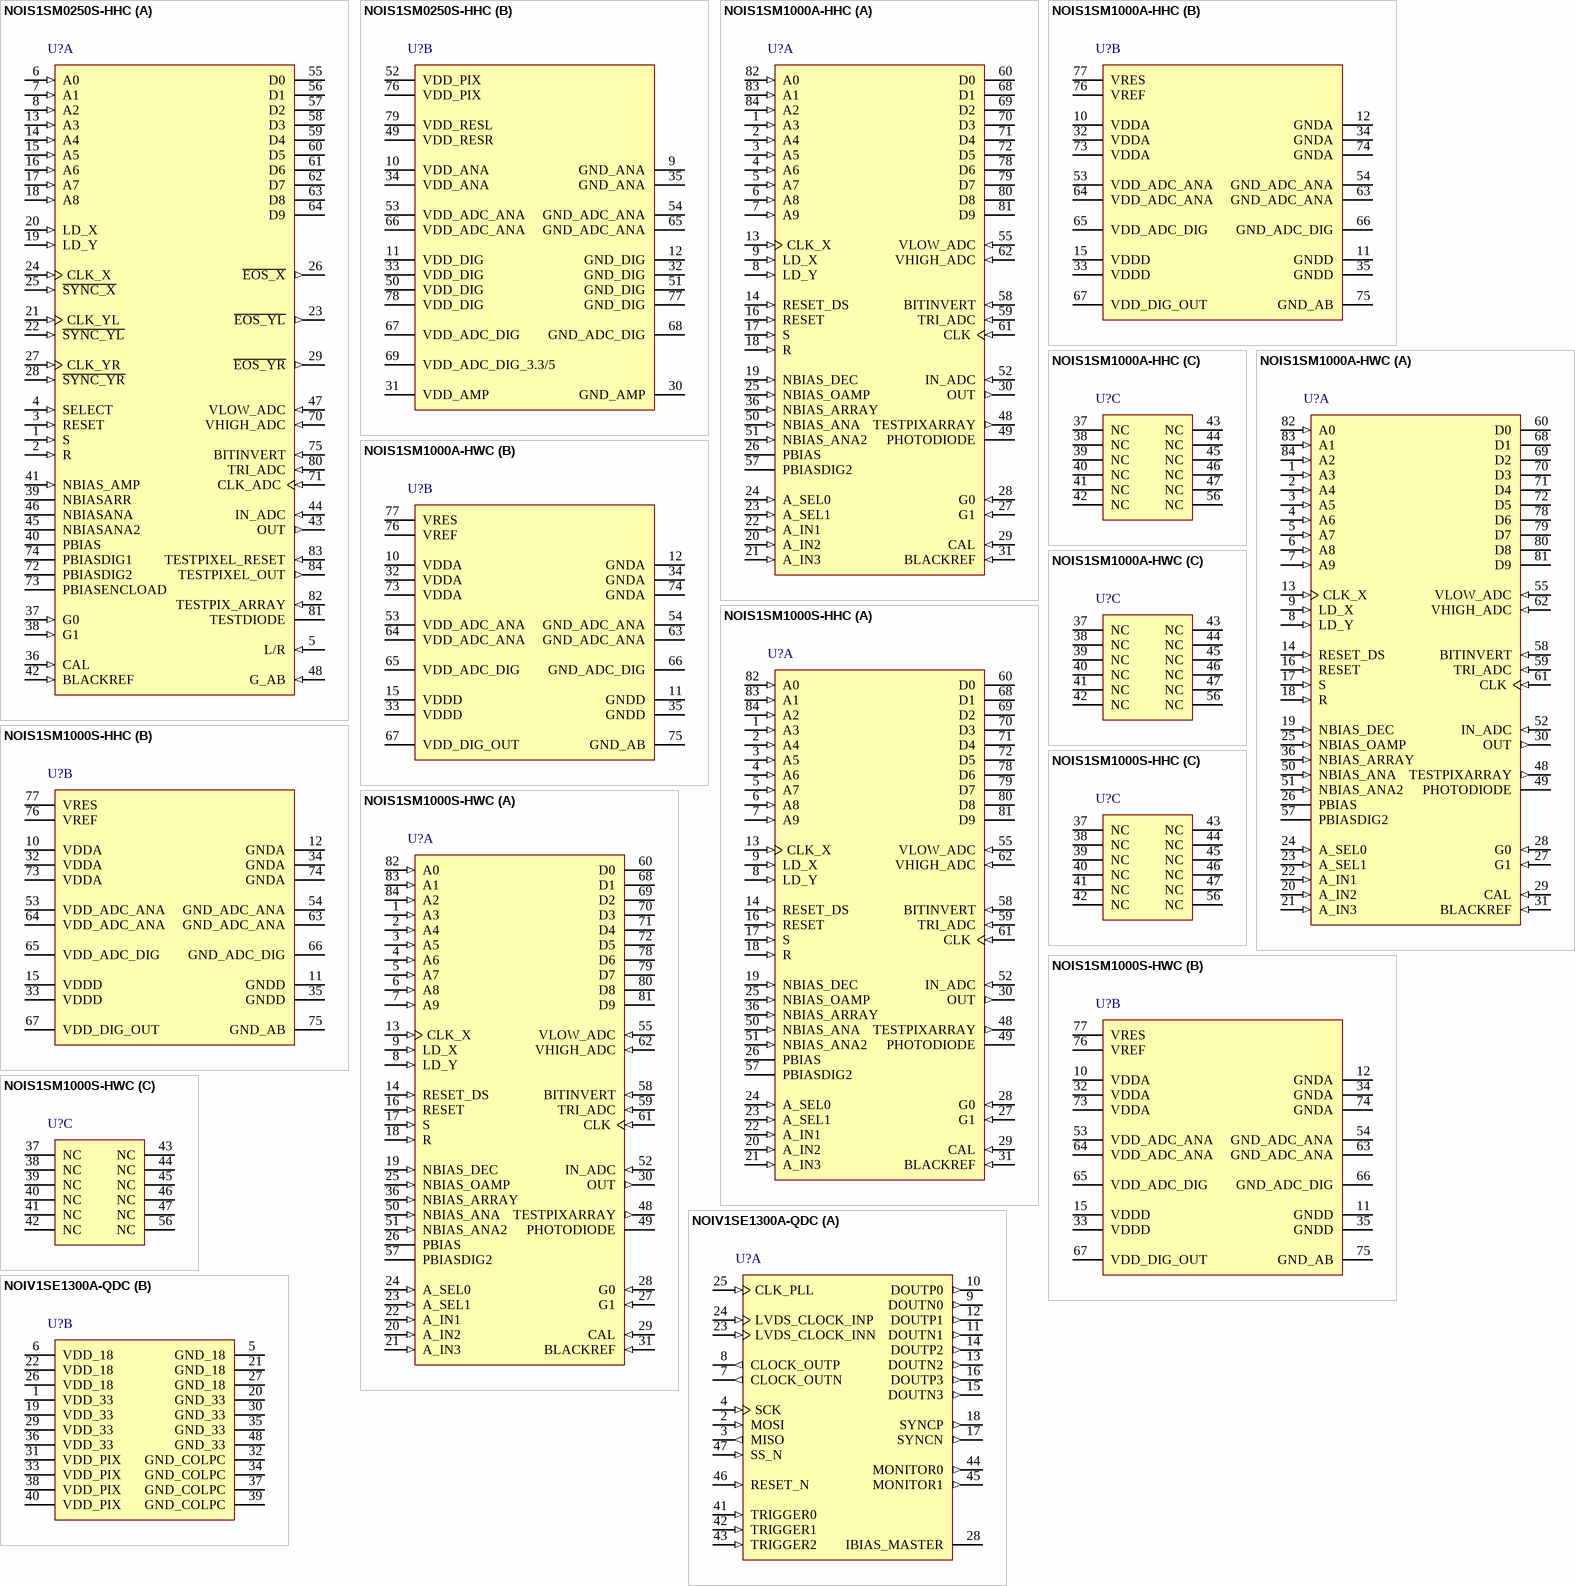
[diagram p1: symbols NOIS1SM0250S-HHC to NOIV1SE1300A-QDC]

## NOIS1SM0250S-HHC
designator U?
250 K Pixel Radiation Tolerant CMOS Image Sensor, -40 to 85 degC, 84-Pin JLDCC, Pb-Free, Tray; Manufacturer: On Semiconductor; PartNumber: NOIS1SM0250S-HHC; Frame Rate (fps): 29; Megapixels: 0.25; Optical Format: 1 inch; Shutter Type: Electronic; DatasheetVersion: Rev. 10; PackageVersion: Rev. O, 07/2011; PackageReference: JLDCC-84-114AK-01; PackageDescription: 84-Pin J-Leaded Chip Carrier, Body 29.21 x 29.21 mm, Pitch 1.27 mm; Supplier 1: Digi-Key; Supplier Part Number 1: NOIS1SM0250S-HHC-ND; Supplier 2: Mouser; Supplier Part Number 2: N/A; Packing: Tray; RoHS: TRUE; Mounting Technology: Surface Mount; ComponentLink1Description: Manufacturer URL; ComponentLink1URL: http://www.onsemi.com/; ComponentLink2Description: Datasheet; ComponentLink2URL: http://www.onsemi.com/pub_link/Collateral/NOIS1SM0250A-D.PDF; ComponentLink3Description: Package Specification; ComponentLink3URL: http://www.onsemi.com/pub_link/Collateral/114AK.PDF
footprint ONSC-JLDCC-84-114AK-01_V (PLCC, 84-Leads, Body 29.21x29.21mm, Pitch 1.27mm)
part A pins: 1 S (in) "Control signal for column amplifier", 2 R (in) "Control signal for column amplifier", 3 RESET (in) "Resets row indicated by left/right shift register. high active (1= reset row)", 4 SELECT (in) "Selects row indicated by left/right shift register. high active (1=select row)", 5 L/R (in) "Use left or right shift register for SELECT and RESET. 1 = left / 0 = right; see Figure 11.", 6 A0 (in) "Start address for X and Y pointers (LSB)", 7 A1 (in) "Start address for X and Y pointers", 8 A2 (in) "Start address for X and Y pointers", 13 A3 (in) "Start address for X and Y pointers", 14 A4 (in) "Start address for X and Y pointers", 15 A5 (in) "Start address for X and Y pointers", 16 A6 (in) "Start address for X and Y pointers", 17 A7 (in) "Start address for X and Y pointers", 18 A8 (in) "Start address for X and Y pointers (MSB)", 19 LD_Y (in) "Latch address (A0…A8) to Y start register (0 = track, 1 = hold)", 20 LD_X (in) "Latch address (A0…A8) to X start register (0 = track, 1 = hold)", 21 CLK_YL (in) "Clock YL shift register (shifts on falling edge)", 22 ~{SYNC_YL} (in) "Sets YL shift register to location preloaded in Y start register. Low active (0=sync). Apply SYNC_YL when CLK_YL is high.", 23 ~{EOS_YL} (out) "End-of-scan of YL shift register. Low first clock period after last row (low active).", 24 CLK_X (in) "Clock X shift register (output valid and s when CLK_X is low)", 25 ~{SYNC_X} (in) "Sets X shift register to location preloaded in X start register. Low active (0=sync). Apply SYNC_X when CLK_X is high. After SYNC_X, apply falling edge on CLK_X, and rising edge on CLK_X.", 26 ~{EOS_X} (out) "End-of-scan of X shift register. Low first clock period after last active column (low active).", 27 CLK_YR (in) "Clock YR shift register (shifts on falling edge)", 28 ~{SYNC_YR} (in) "Sets YR shift register to location preloaded in Y start register. Low active (0=sync). Apply SYNC_YR when CLK_YR is high.", 29 ~{EOS_YR} (out) "End-of-scan of YR shift register. Low first clock period after last row (low active).", 36 CAL (in) "Initialize output amplifier. Output amplifier will output BLACKREF in unity gain mode when CAL is high (1).", 37 G0 (in) "Select output amplifier gain value: G0 = LSB; G1 = MSB. 00 = unity gain; 01 = x2; 10 = x4; 11 = x8.", 38 G1 (in) "idem", 39 NBIASARR "Connect with 470 k to VDD and decouple to ground with a 100 nF capacitor.", 40 PBIAS "Connect with 39 k to ground and decouple to VDD with a 100 nF capacitor for 8 MHz pixel rate. (Lower resistor values yield higher maximal pixel rates at the cost of extra power dissipation).", 41 NBIAS_AMP (in) "Output amplifier speed/power control. Connect with 51 k  to VDD and decouple with 100 nF to GND for 8 MHz output rate (Lower resistor values yield higher maximal pixel rates at the cost of extra power dissipation).", 42 BLACKREF (in) "Control voltage for output signal offset level. Buffered on-chip, the reference level can be generated by a 100 kohm resistive divider. Connect to +/- 2 V DC for use with on-chip ADC.", 43 OUT (out) "Analog output signal are connected to the analog input of the ADC.", 44 IN_ADC (in) "Input, connect to sensor output. Input range is between 2 and 4 V (VLOW_ADC and VHIGH_ADC).", 45 NBIASANA2 "Connect with 100 k to VDD and decouple to GND.", 46 NBIASANA "Connect with 100 k to VDD and decouple to GND.", 47 VLOW_ADC (in) "Low reference and high reference voltages of ADC should be about 2 V and 4 V. The required voltage settings on VLOW_ADC and VHIGH_ADC can be approximated by tying VLOW_ADC with 1.2 kohm to GND and VHIGH_ADC with 560ohm to (See Datasheet)", 48 G_AB (in) "Antiblooming drain control voltage: Default: connect to ground. The antiblooming is operational but not maximal. Apply 1 V DC for improved antiblooming.", 55 D0 (hiz) "ADC output bit (LSB)", 56 D1 (hiz) "ADC output bit", 57 D2 (hiz) "ADC output bit", 58 D3 (hiz) "ADC output bit", 59 D4 (hiz) "ADC output bit", 60 D5 (hiz) "ADC output bit", 61 D6 (hiz) "ADC output bit", 62 D7 (hiz) "ADC output bit", 63 D8 (hiz) "ADC output bit", 64 D9 (hiz) "ADC output bit (MSB)", 70 VHIGH_ADC (in) "Low reference and high reference voltages of ADC should be about 2 V and 4 V. The required voltage settings on VLOW_ADC and VHIGH_ADC can be approximated by tying VLOW_ADC with 1.2 kohm to GND and VHIGH_ADC with 560ohm to (See Datasheet)", 71 CLK_ADC (in) "ADC clock. ADC converts on falling edge.", 72 PBIASDIG2 "Connect with 100 K to GND and decouple to VDD.", 73 PBIASENCLOAD "Connect with 100 K to GND and decouple to VDD.", 74 PBIASDIG1 "Connect with 47 K to GND and decouple to VDD.", 75 BITINVERT (in) "1 = invert output bits. 0 = no inversion of output bits.", 80 TRI_ADC (in) "Tristate control of digital ADC outputs. 1 = tristate; 0 = output.", 81 TESTDIODE "Plain photo diode, size: 14 x 25 pixels. Must be left open for normal operation.", 82 TESTPIX_ARRAY (in) "Array of test pixels, connected in parallel (14 x 25 pixels). Must be left open for normal operation.", 83 TESTPIXEL_RESET (in) "Reset input of single test pixel. Must be tied to GND for normal operation.", 84 TESTPIXEL_OUT (out) "Output of single test pixel. Must be left open for normal operation."
part B pins: 9 GND_ANA (power) "Analog ground", 10 VDD_ANA (power) "Analog power supply 5 V", 11 VDD_DIG (power) "Digital power supply 5 V", 12 GND_DIG (power) "Digital ground", 30 GND_AMP (power) "Ground of output amplifier", 31 VDD_AMP (power) "Power supply of output amplifier 5 V", 32 GND_DIG (power) "Digital ground", 33 VDD_DIG (power) "Digital power supply 5 V", 34 VDD_ANA (power) "Analog power supply 5 V", 35 GND_ANA (power) "Analog ground", 49 VDD_RESR (power) "Reset power supply 5 V", 50 VDD_DIG (power) "Digital power supply 5 V", 51 GND_DIG (power) "Digital ground", 52 VDD_PIX (power) "Pixel array power supply [default: 5 V, the device is then in ‘soft reset’. To avoid the image lag associated with soft reset, reduce this voltage to 3 3.5 V ‘hard reset’]", 53 VDD_ADC_ANA (power) "ADC analog power supply 5 V", 54 GND_ADC_ANA (power) "ADC analog ground", 65 GND_ADC_ANA (power) "ADC analog ground", 66 VDD_ADC_ANA (power) "ADC analog power supply 5 V", 67 VDD_ADC_DIG (power) "ADC digital power supply 5 V", 68 GND_ADC_DIG (power) "ADC digital ground", 69 VDD_ADC_DIG_3.3/5 (power) "ADC 3.3 V power supply for digital output of ADC. For interface with 5 V external system: connect to VDD_ADC_DIG. For interface with 3.3 V external system: connect to 3.3 V power supply", 76 VDD_PIX (power) "Pixel array power supply [default: 5 V, the device is then in ‘soft reset’. To avoid the image lag associated with soft reset, reduce this voltage to 3 3.5 V ‘hard reset’]", 77 GND_DIG (power) "Digital ground", 78 VDD_DIG (power) "Digital power supply 5 V", 79 VDD_RESL (power) "Reset power supply 5 V"